# Altium schematic symbol library Switch_SPST_Tactile_1.Schlib: 1 symbol
Pins are listed as number, name and electrical type; pins without a type are passive.

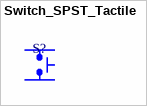
[diagram p0: symbol Switch_SPST_Tactile]

## Switch_SPST_Tactile
designator S?  (value not drawn)
ComponentLink1Description: Datasheet; ComponentLink1URL: https://www.mouser.com/ds/2/140/TL3315-345930.pdf
footprint TACTILE SWITCH 2
pins: 1, 2, 3, 4